# Altium schematic symbol library TXB0101.Schlib: 1 symbol
Pins are listed as number, name and electrical type; pins without a type are passive.

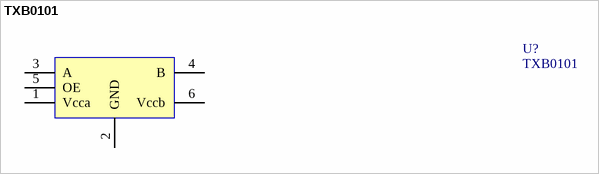
[diagram p0: symbol TXB0101]

## TXB0101
designator U?
IC, Translator
pins: 1 Vcca, 2 GND, 3 A, 4 B, 5 OE, 6 Vccb